# Altium schematic symbol library LT3999EDD#PBF.SchLib: 1 symbol
Pins are listed as number, name and electrical type; pins without a type are passive.

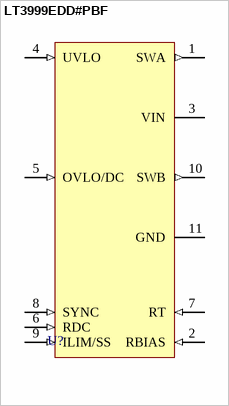
[diagram p0: symbol LT3999EDD#PBF]

## LT3999EDD#PBF
designator U?
pins: 1 SWA (out), 2 RBIAS (in), 3 VIN (power), 4 UVLO (in), 5 OVLO/DC (in), 6 RDC (in), 7 RT (in), 8 SYNC (in), 9 ILIM/SS (in), 10 SWB (out), 11 GND (power)